# EAGLE library part ESP32LORA (library ESP32-DEVKITC)
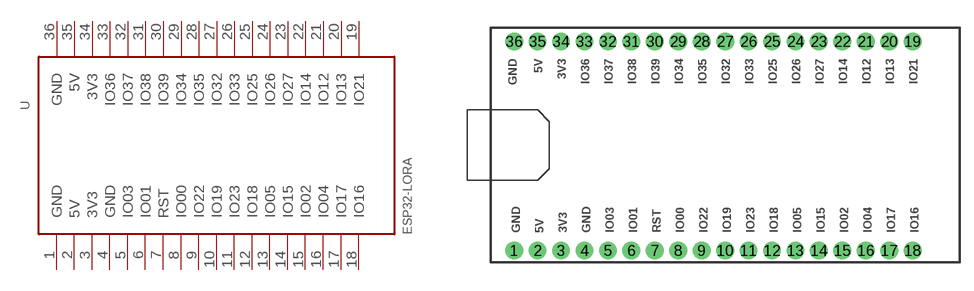
[diagram p1: symbol with the pads of ESP32-LORA-TTGO; footprint ESP32-LORA-TTGO]

Designator prefix -

## ESP32LORA  [ESP32-LORA-TTGO]
1  GND  pwr
2  5V  pwr
3  3V3  out
4  GND  pwr
5  IO03
6  IO01
7  RST
8  IO00
9  IO22
10  IO19
11  IO23
12  IO18
13  IO05
14  IO15
15  IO02
16  IO04
17  IO17
18  IO16
19  IO21
20  IO13
21  IO12
22  IO14
23  IO27
24  IO26
25  IO25
26  IO33
27  IO32
28  IO35
29  IO34
30  IO39
31  IO38
32  IO37
33  IO36
34  3V3  out
35  5V  pwr
36  GND  pwr

## Footprint ESP32-LORA-TTGO (pad centres in mm)
drill 1 pad 1.93: 1 -21.6,-11.42; 2 -19.06,-11.42; 3 -16.52,-11.42; 4 -13.98,-11.42; 5 -11.44,-11.42; 6 -8.9,-11.42; 7 -6.36,-11.42; 8 -3.82,-11.42; 9 -1.28,-11.42; 10 1.26,-11.42; 11 3.8,-11.42; 12 6.34,-11.42; 13 8.88,-11.42; 14 11.42,-11.42; 15 13.96,-11.42; 16 16.5,-11.42; 17 19.04,-11.42; 18 21.58,-11.42; 19 21.58,11.23; 20 19.04,11.23; 21 16.5,11.23; 22 13.96,11.23; 23 11.42,11.23; 24 8.88,11.23; 25 6.34,11.23; 26 3.8,11.23; 27 1.26,11.23; 28 -1.28,11.23; 29 -3.82,11.23; 30 -6.36,11.23; 31 -8.9,11.23; 32 -11.44,11.23; 33 -13.98,11.23; 34 -16.52,11.23; 35 -19.06,11.23; 36 -21.6,11.23